# EAGLE library part W65C22S (library 6502_lib)
W65C22 by WDC
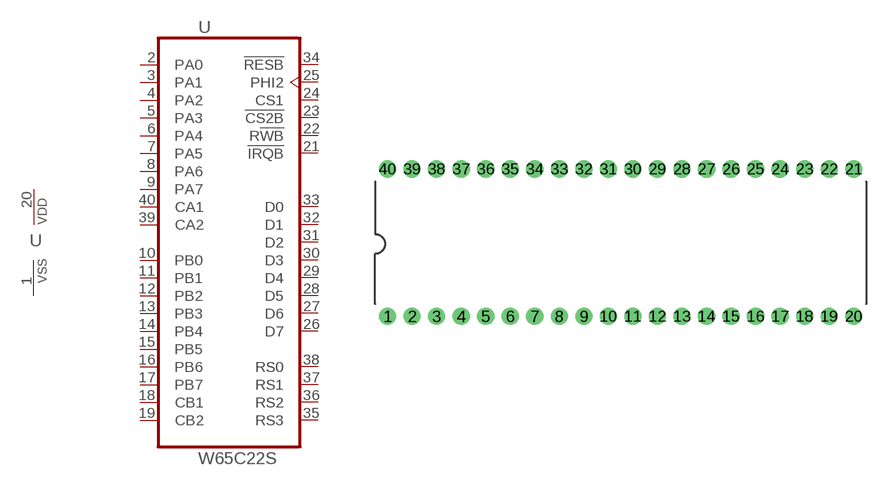
[diagram p5: symbol with the pads of DIL40; footprint DIL40]

Designator prefix U; gates VIA=W65C22 VIAP=PWRN

## W65C22S6TP  [DIL40]
1  VIAP:VSS  pwr
2  VIA:PA0
3  VIA:PA1
4  VIA:PA2
5  VIA:PA3
6  VIA:PA4
7  VIA:PA5
8  VIA:PA6
9  VIA:PA7
10  VIA:PB0
11  VIA:PB1
12  VIA:PB2
13  VIA:PB3
14  VIA:PB4
15  VIA:PB5
16  VIA:PB6
17  VIA:PB7
18  VIA:CB1
19  VIA:CB2
20  VIAP:VDD  pwr
21  VIA:!IRQB  out
22  VIA:R!WB  in
23  VIA:!CS2B  in
24  VIA:CS1  in
25  VIA:PHI2  in
26  VIA:D7
27  VIA:D6
28  VIA:D5
29  VIA:D4
30  VIA:D3
31  VIA:D2
32  VIA:D1
33  VIA:D0
34  VIA:!RESB  in
35  VIA:RS3  in
36  VIA:RS2  in
37  VIA:RS1  in
38  VIA:RS0  in
39  VIA:CA2
40  VIA:CA1

## Footprint DIL40 (pad centres in mm)
drill 1.016 pad 1.778: 1 -24.13,-7.62; 2 -21.59,-7.62; 3 -19.05,-7.62; 4 -16.51,-7.62; 5 -13.97,-7.62; 6 -11.43,-7.62; 7 -8.89,-7.62; 8 -6.35,-7.62; 9 -3.81,-7.62; 10 -1.27,-7.62; 11 1.27,-7.62; 12 3.81,-7.62; 13 6.35,-7.62; 14 8.89,-7.62; 15 11.43,-7.62; 16 13.97,-7.62; 17 16.51,-7.62; 18 19.05,-7.62; 19 21.59,-7.62; 20 24.13,-7.62; 21 24.13,7.62; 22 21.59,7.62; 23 19.05,7.62; 24 16.51,7.62; 25 13.97,7.62; 26 11.43,7.62; 27 8.89,7.62; 28 6.35,7.62; 29 3.81,7.62; 30 1.27,7.62; 31 -1.27,7.62; 32 -3.81,7.62; 33 -6.35,7.62; 34 -8.89,7.62; 35 -11.43,7.62; 36 -13.97,7.62; 37 -16.51,7.62; 38 -19.05,7.62; 39 -21.59,7.62; 40 -24.13,7.62